# Altium integrated library CODECODER-VS1053B_LQFP48_.IntLib: 1 symbol
Pins are listed as number, name and electrical type; pins without a type are passive.

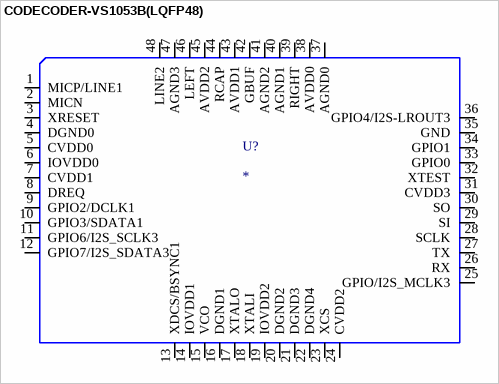
[diagram p0: symbol CODECODER-VS1053B(LQFP48)]

## CODECODER-VS1053B(LQFP48)
designator U?
VS1053B MP3/WAV/OGG/MIDI Player & Recorder (CODEC) Chip; MP: VS1053B-L; MF: VLSI; Availability: Unavailable; Check_prices: https://www.snapeda.com/parts/VS1053B-L/VLSI/view-part/105440/?ref=eda; SnapEDA_Link: https://www.snapeda.com/parts/VS1053B-L/VLSI/view-part/105440/?ref=snap; Price: None; Package: LQFP-48 VLSI; Value: *
footprint LQFP48-0.5-7X7MM
pins: 1 MICP/LINE1 (io), 2 MICN (io), 3 XRESET (io), 4 DGND0 (power), 5 CVDD0 (power), 6 IOVDD0 (power), 7 CVDD1 (power), 8 DREQ (io), 9 GPIO2/DCLK1 (io), 10 GPIO3/SDATA1 (io), 11 GPIO6/I2S_SCLK3 (io), 12 GPIO7/I2S_SDATA3 (io), 13 XDCS/BSYNC1 (io), 14 IOVDD1 (power), 15 VCO (power), 16 DGND1 (power), 17 XTALO (io), 18 XTALI (io), 19 IOVDD2 (power), 20 DGND2 (power), 21 DGND3 (power), 22 DGND4 (power), 23 XCS (io), 24 CVDD2 (power), 25 GPIO/I2S_MCLK3 (io), 26 RX (io), 27 TX (io), 28 SCLK (io), 29 SI (io), 30 SO (io), 31 CVDD3 (power), 32 XTEST (io), 33 GPIO0 (io), 34 GPIO1 (io), 35 GND (power), 36 GPIO4/I2S-LROUT3 (io), 37 AGND0 (power), 38 AVDD0 (power), 39 RIGHT (io), 40 AGND1 (power), 41 AGND2 (power), 42 GBUF (io), 43 AVDD1 (power), 44 RCAP (io), 45 AVDD2 (power), 46 LEFT (io), 47 AGND3 (power), 48 LINE2 (io)